# EAGLE library part INA220 (library packages(ti))
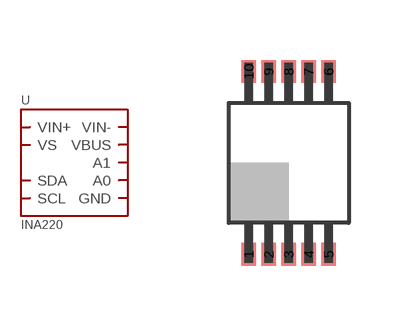
[diagram p16: symbol with the pads of DGS.10; footprint DGS.10]

Designator prefix U

## INA220.DGS  [DGS.10]
1  A1
2  A0
4  SDA
5  SCL
6  VS
7  GND
8  VBUS
9  VIN-
10  VIN+

## Footprint DGS.10 (pad centres in mm)
smd 0.36 x 0.57: 1 -1,-2.285; 2 -0.5,-2.285; 3 0,-2.285; 4 0.5,-2.285; 5 1,-2.285; 6 1,2.285; 7 0.5,2.285; 8 0,2.285; 9 -0.5,2.285; 10 -1,2.285